# Altium footprint library 四轴PCB.PcbLib: 14 footprints
Each footprint in its own frame and in the unit in brackets; x right, y up, seen from the top. Pads: shape width x height; smd on the part's side, far side on the other; paste and mask are expansions set on the pad; w line width, h text height; cw(c..) or ccw(c..) is an arc to the next point about the centre after c.
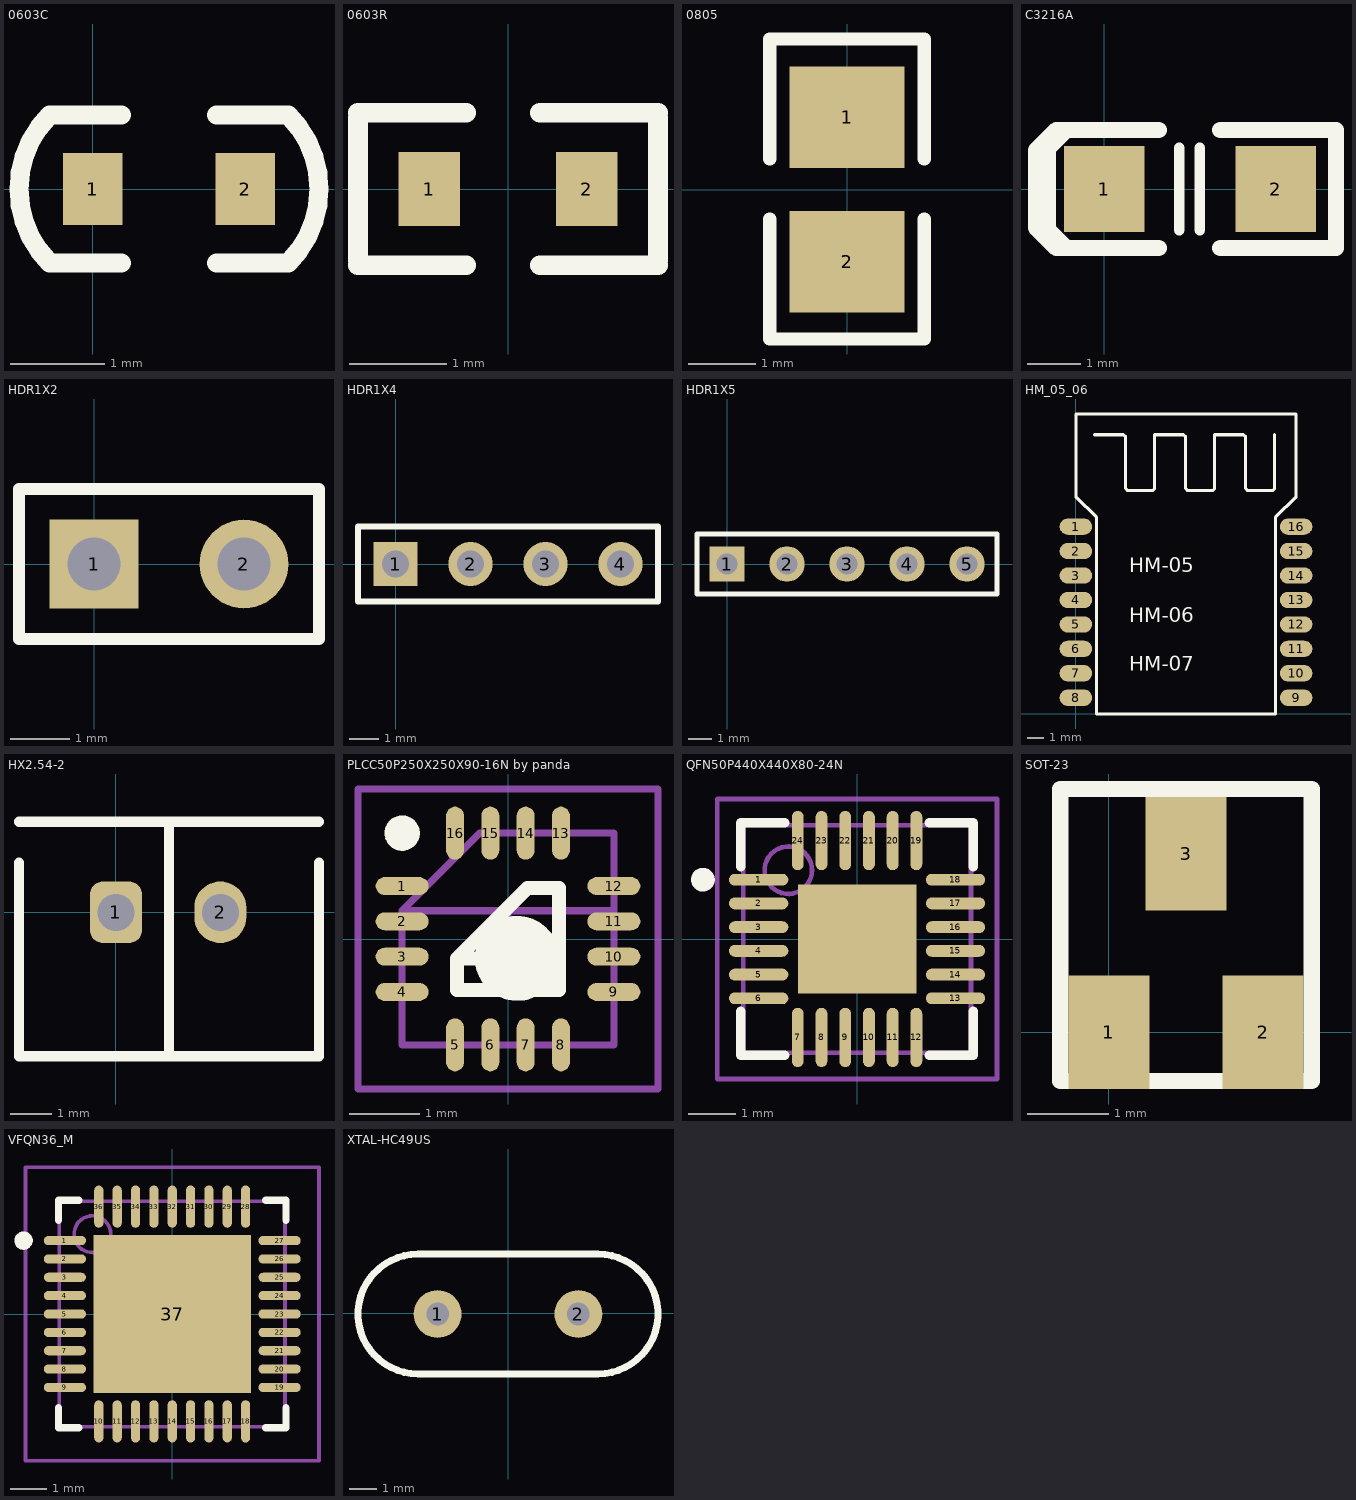
[diagram p0: the footprints below, top view; thin cyan lines are the x and y axes]

## 0603C [mil]
pads (2):
  rect 25x30 smd: 1(0,0) 2(64,0)
Top Overlay:
  lines w8: 12,-31 -18,-31 cw(c13,0) -18,31 12,31 ; 52,-31 82,-31 ccw(c51,0) 82,31 52,31

## 0603R [mil]
pads (2):
  rect 25x30 smd: 1(-32,0) 2(32,0)
Top Overlay:
  lines w8: -61,-31 -17,-31 ; -61,-29 -61,29 ; -61,31 -17,31 ; 13,-31 61,-31 ; 13,31 61,31 ; 61,-29 61,29

## 0805 [mm]
pads (2):
  rect 1.7x1.5 smd: 1(0,1.072) 2(0,-1.071)
Top Overlay:
  lines w0.2: -1.143,-0.436 -1.143,-2.214 1.143,-2.214 1.143,-0.436 ; -1.143,0.453 -1.143,2.231 -0.505,2.231 1.143,2.231 1.143,0.453

## C3216A [mm]
pads (2):
  rect 1.5x1.6 smd: 1(0,0) 2(3.2,0)
Top Overlay:
  lines w0.2: -1.083,-0.822 -1.083,0.906 ; -1,-1 -1,1 ; -1,-0.762 -0.973,-0.762 -0.635,-1.1 ; -1,0.762 -0.973,0.762 -0.635,1.1 ; 1.397,-0.762 1.397,0.762 ; 1.778,-0.762 1.778,0.762
  lines w0.305: 1.016,-1.1 -0.889,-1.1 -1.27,-0.719 -1.27,0.719 -0.889,1.1 1.016,1.1 ; 2.159,-1.1 4.318,-1.1 4.318,1.1 2.159,1.1
3D body: height 1.6, standoff 0, extent 0.051,-0.787 3.251,0.813

## HDR1X2 [mm] "Connector; Header; 2 Position"
pads (2):
  rect 1.5x1.5 hole 0.9: 1(0,0)
  round 1.5 hole 0.9: 2(2.54,0)
Top Overlay:
  lines w0.2: -1.27,-1.27 -1.27,1.27 3.81,1.27 3.81,-1.27 -1.27,-1.27

## HDR1X4 [mm] "Connector; Header; 4 Position"
pads (4):
  rect 1.5x1.5 hole 0.9: 1(0,0)
  round 1.5 hole 0.9: 2(2.54,0) 3(5.08,0) 4(7.62,0)
Top Overlay:
  lines w0.2: -1.27,-1.27 8.89,-1.27 8.89,1.27 -1.27,1.27 -1.27,-1.27

## HDR1X5 [mm] "Connector; Header; 5 Position"
pads (5):
  rect 1.5x1.5 hole 0.9: 1(0,0)
  round 1.5 hole 0.9: 2(2.54,0) 3(5.08,0) 4(7.62,0) 5(10.16,0)
Top Overlay:
  lines w0.2: -1.27,-1.27 11.43,-1.27 11.43,1.27 -1.27,1.27 -1.27,-1.27

## HM_05_06 [mm]
pads (16):
  oval 2x1 smd: 1(0,11.5) 2(0,10) 3(0,8.5) 4(0,7) 5(0,5.5) 6(0,4) 7(0,2.5) 8(0,1) 9(13.513,1) 10(13.513,2.5) 11(13.513,4) 12(13.513,5.5) 13(13.513,7) 14(13.513,8.5) 15(13.513,10) 16(13.513,11.5)
Top Overlay:
  lines w0.2: 1.143,17.145 2.921,17.145 3.048,17.018 3.048,13.843 3.175,13.716 4.699,13.716 4.826,13.843 4.826,17.145 6.604,17.145 6.731,17.018 6.731,13.843 6.858,13.716 8.382,13.716 8.509,13.843 8.509,17.145 10.287,17.145 10.414,17.018 10.414,13.843 10.541,13.716 12.065,13.716 12.192,13.843 12.192,17.145 ; 0,13.335 1.27,12.065 1.27,0 12.243,0 12.243,12.065 13.513,13.335 13.513,18.415 0,18.415 0,13.335
  text "HM-05" at 3.277,8.687 h0.89
  text "HM-06" at 3.277,5.639 h0.89
  text "HM-07" at 3.277,2.642 h0.89

## HX2.54-2 [mm]
pads (2):
  rrect50% 1.27x1.5 hole 0.9 square: 1(0,0)
  oval 1.27x1.5 hole 0.9 square: 2(2.54,0)
Top Overlay:
  lines w0.254: -2.36,1.206 -2.36,-3.5 4.94,-3.5 4.94,1.206 ; -2.36,2.2 4.94,2.2 ; 1.29,-3.5 1.29,2.2
3D body: height 7, standoff -3, extent -5.48,-7.3 8.02,6.2

## PLCC50P250X250X90-16N by panda [mm]
pads (16):
  oval 0.75x0.254 smd: 1(-1.5,0.75) 2(-1.5,0.25) 3(-1.5,-0.25) 4(-1.5,-0.75) 9(1.5,-0.75) 10(1.5,-0.25) 11(1.5,0.25) 12(1.5,0.75)
  oval 0.254x0.75 smd: 5(-0.75,-1.5) 6(-0.25,-1.5) 7(0.25,-1.5) 8(0.75,-1.5) 13(0.75,1.5) 14(0.25,1.5) 15(-0.25,1.5) 16(-0.75,1.5)
Top Overlay:
  circle w0.6: c0.132,-0.275 r0.3
  circle w0.25: c-1.5,1.5 r0.125
  lines w0.2: 0.725,-0.275 -0.725,-0.275 ; -0.725,-0.275 -0.725,-0.725 0.725,-0.725 0.725,0.725 0.275,0.725 -0.725,-0.275
Mechanical 13:
  lines w0.1: 1.5,0.4 -1.5,0.4 ; -1.5,0.4 -0.4,1.5 1.5,1.5 1.5,-1.5 -1.5,-1.5 -1.5,0.4
Mechanical 15:
  lines w0.1: -0.5,0 0.5,0 ; 0,-0.5 0,0.5 ; -2.125,-2.125 2.125,-2.125 2.125,2.125 -2.125,2.125 -2.125,-2.125
3D body: height 0.9, standoff 0.1, extent -1.5,-1.5 1.5,1.5

## QFN50P440X440X80-24N [mm]
pads (25):
  oval 1.25x0.25 smd: 1(-2.075,1.25) 2(-2.075,0.75) 3(-2.075,0.25) 4(-2.075,-0.25) 5(-2.075,-0.75) 6(-2.075,-1.25) 13(2.075,-1.25) 14(2.075,-0.75) 15(2.075,-0.25) 16(2.075,0.25) 17(2.075,0.75) 18(2.075,1.25)
  oval 0.25x1.25 smd: 7(-1.25,-2.075) 8(-0.75,-2.075) 9(-0.25,-2.075) 10(0.25,-2.075) 11(0.75,-2.075) 12(1.25,-2.075) 19(1.25,2.075) 20(0.75,2.075) 21(0.25,2.075) 22(-0.25,2.075) 23(-0.75,2.075) 24(-1.25,2.075)
  rect 2.5x2.3 smd: ""(0,0)
Top Overlay:
  circle w0.25: c-3.25,1.25 r0.125
  lines w0.2: -2.45,-1.525 -2.45,-2.45 -1.525,-2.45 ; -2.45,1.525 -2.45,2.45 -1.525,2.45 ; 1.525,-2.45 2.45,-2.45 2.45,-1.525 ; 1.525,2.45 2.45,2.45 2.45,1.525
Mechanical 13:
  circle w0.1: c-1.45,1.45 r0.5
  lines w0.1: -2.4,-2.4 -2.4,2.4 2.4,2.4 2.4,-2.4 -2.4,-2.4
Mechanical 15:
  lines w0.1: -0.5,0 0.5,0 ; 0,-0.5 0,0.5 ; -2.95,-2.95 -2.95,2.95 2.95,2.95 2.95,-2.95 -2.95,-2.95

## SOT-23 [mm]
pads (3):
  rect 1x1.4 smd: 1(0,0) 2(1.9,0) 3(0.95,2.2)
Top Overlay:
  lines w0.2: -0.6,-0.6 -0.6,3 2.5,3 2.5,-0.6 -0.6,-0.6
3D body: height -0.38, standoff -1.58, extent -1.462,-1.331 3.338,3.469

## VFQN36_M [mm]
pads (37):
  oval 1.15x0.25 smd: 1(-2.925,2) 2(-2.925,1.5) 3(-2.925,1) 4(-2.925,0.5) 5(-2.925,0) 6(-2.925,-0.5) 7(-2.925,-1) 8(-2.925,-1.5) 9(-2.925,-2) 19(2.925,-2) 20(2.925,-1.5) 21(2.925,-1) 22(2.925,-0.5) 23(2.925,0) 24(2.925,0.5) 25(2.925,1) 26(2.925,1.5) 27(2.925,2)
  oval 0.25x1.15 smd: 10(-2,-2.925) 11(-1.5,-2.925) 12(-1,-2.925) 13(-0.5,-2.925) 14(0,-2.925) 15(0.5,-2.925) 16(1,-2.925) 17(1.5,-2.925) 18(2,-2.925) 28(2,2.925) 29(1.5,2.925) 30(1,2.925) 31(0.5,2.925) 32(0,2.925) 33(-0.5,2.925) 34(-1,2.925) 35(-1.5,2.925) 36(-2,2.925)
  rect 4.3x4.3 smd: 37(0,0)
Top Overlay:
  circle w0.25: c-4.05,2 r0.125
  lines w0.2: -3.1,-2.55 -3.1,-3.1 -2.55,-3.1 ; -3.1,2.55 -3.1,3.1 -2.55,3.1 ; 2.55,-3.1 3.1,-3.1 3.1,-2.55 ; 2.55,3.1 3.1,3.1 3.1,2.55
Mechanical 13:
  circle w0.1: c-2.175,2.175 r0.5
  lines w0.1: -3.075,-3.075 -3.075,3.075 3.075,3.075 3.075,-3.075 -3.075,-3.075
Mechanical 15:
  lines w0.1: -0.5,0 0.5,0 ; 0,-0.5 0,0.5 ; -4,-4 -4,4 4,4 4,-4 -4,-4

## XTAL-HC49US [mil]
pads (2):
  round 68 hole 32: 1(-100,-1) 2(100,-1)
Top Overlay:
  lines w10: -128,-86.01 cw(c-128,-1) -128,84.01 128,84.01 cw(c128,-1) 128,-86.01 -128,-86.01